# Altium schematic symbol library 43025-2000.Schlib: 1 symbol
Pins are listed as number, name and electrical type; pins without a type are passive.

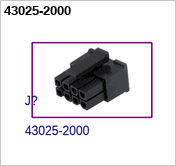
[diagram p0: symbol 43025-2000]

## 43025-2000
designator J?